# Altium schematic symbol library 六脚自锁开关.SchLib: 1 symbol
Pins are listed as number, name and electrical type; pins without a type are passive.

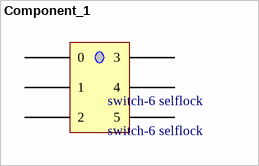
[diagram p0: symbol Component_1]

## Component_1
designator switch-6 selflock, comment switch-6 selflock
footprint switch-6 lockself
footprint switch-6 lockself
pins: 0, 1, 2, 3, 4, 5